# Altium integrated library ADC128S022.IntLib: 1 symbol
Pins are listed as number, name and electrical type; pins without a type are passive.

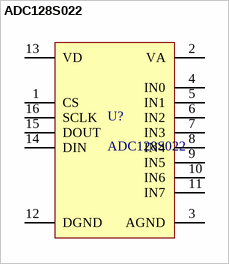
[diagram p0: symbol ADC128S022]

## ADC128S022
designator U?
Supplier 1: Farnell; Supplier 2: Digi-Key; Supplier 3: Mouser; Supplier Part Number 1: 2496156; Supplier Part Number 2: 296-38561-2-ND; Supplier Part Number 3: 926-A128S022CIMTXNPB
footprint TSSOP16
pins: 1 CS, 2 VA, 3 AGND, 4 IN0, 5 IN1, 6 IN2, 7 IN3, 8 IN4, 9 IN5, 10 IN6, 11 IN7, 12 DGND, 13 VD, 14 DIN, 15 DOUT, 16 SCLK